# Altium schematic symbol library Schlib_Kur.SchLib: 33 symbols
Pins are listed as number, name and electrical type; pins without a type are passive.

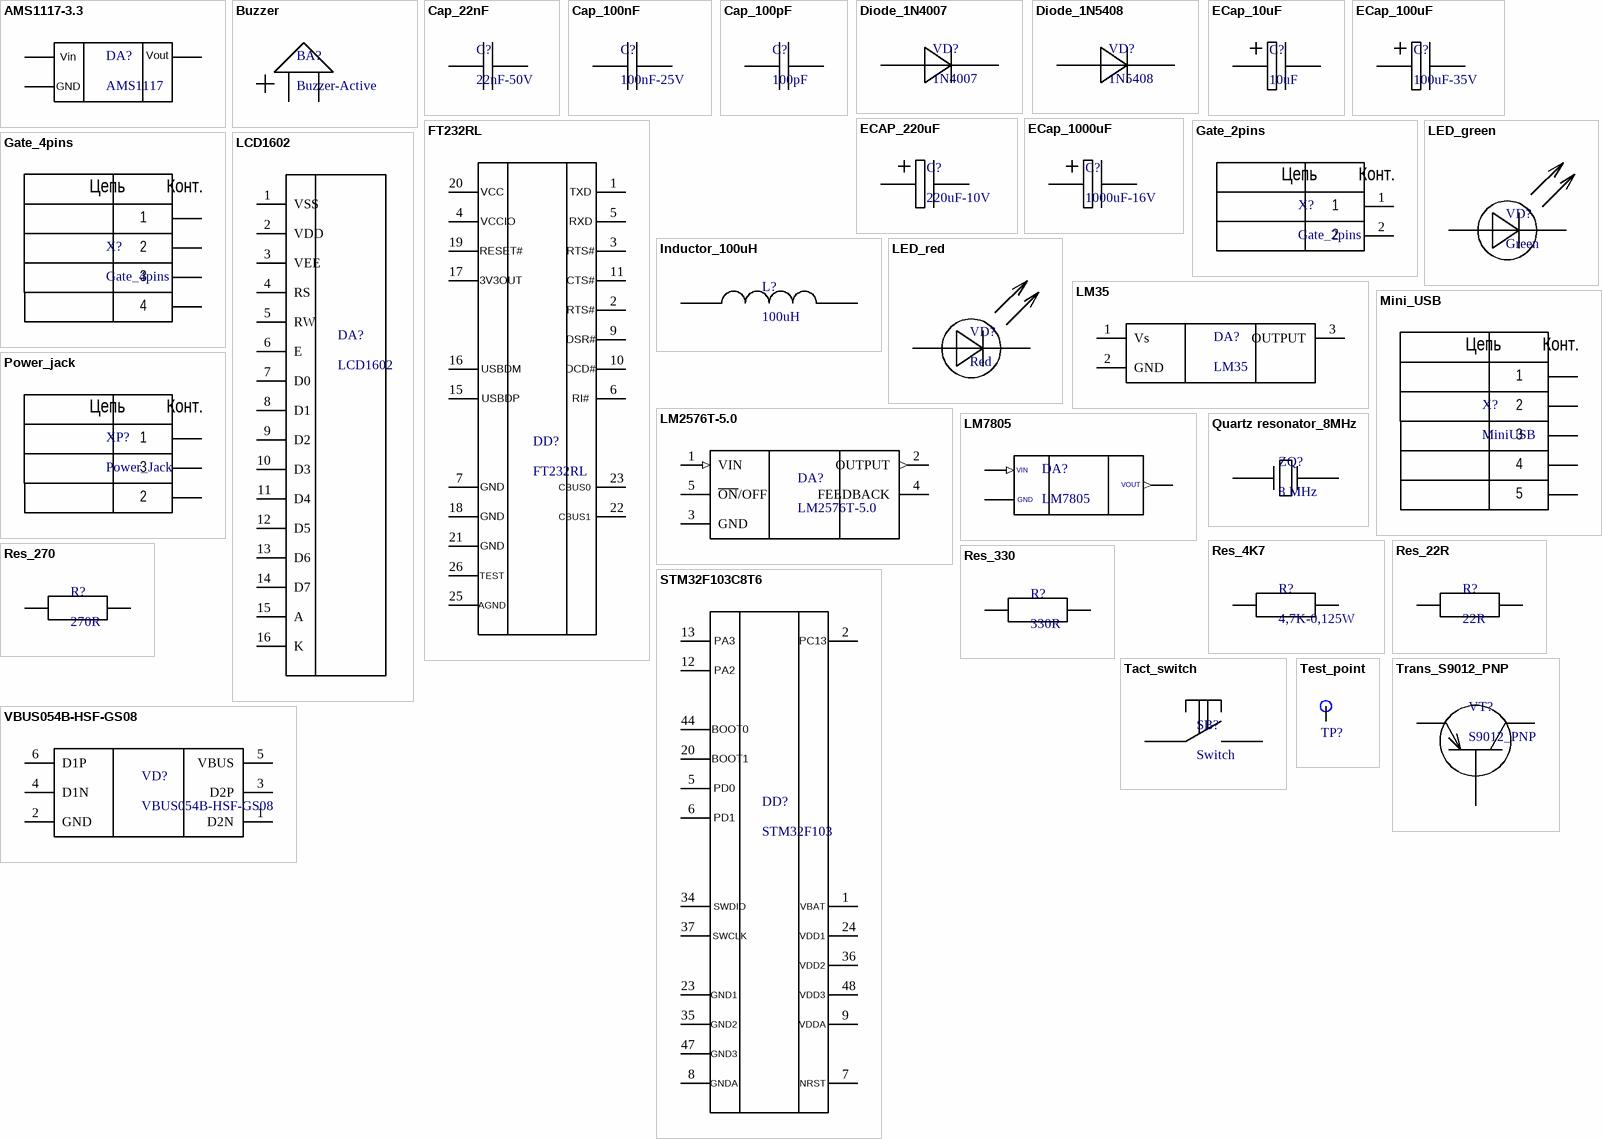
[diagram p0: symbols AMS1117-3.3 to VBUS054B-HSF-GS08]

## AMS1117-3.3
designator DA?, comment AMS1117
footprint AMS1117-3.3V (SOT223, 4-Leads, Body 6.7x7.3mm (max), Pitch 2.30mm, IPC Medium Density)
pins: 1, 2, 3
text: Vin; Vout; GND

## Buzzer
designator BA?, comment Buzzer-Active
footprint 28# Buzzer MINI (PB-12N23P-05Q)
pins: 1, 2

## Cap_22nF
designator C?, comment 22nF-50V
footprint Cap Ceramic 0805 SMD (Reflow Soldering)
pins: 1, 2

## Cap_100nF
designator C?, comment 100nF-25V
footprint Cap Ceramic 0603 SMD (Reflow Soldering)
pins: 1, 2

## Cap_100pF
designator C?, comment 100pF
footprint C0805
pins: 1, 2

## Diode_1N4007
designator VD?, comment 1N4007
pins: 1, 2

## Diode_1N5408
designator VD?, comment 1N5408
pins: 1, 2

## ECap_10uF
designator C?, comment 10uF
footprint Cap_470uFx16V
pins: 1, 2

## ECap_100uF
designator C?, comment 100uF-35V
footprint Cap_470uFx16V
pins: 1, 2

## ECAP_220uF
designator C?, comment 220uF-10V
footprint CAP ALU CASE E SMD
pins: 1, 2

## ECap_1000uF
designator C?, comment 1000uF-16V
footprint Cap_470uFx16V
pins: 1, 2

## FT232RL
designator DD?
footprint SSOP 28 (TSSOP PW 28  PIN TO PIN 0.65)
pins: 1, 2, 3, 4, 5, 6, 7, 9, 10, 11, 15, 16, 17, 18, 19, 20, 21, 22, 23, 25, 26
text: VCC; TXD; VCCIO; RXD; RESET#; RTS#; 3V3OUT; CTS#; DSR#; USBDM; DCD#; USBDP; RI#; GND; CBUS0; CBUS1; TEST; AGND

## Gate_2pins
designator X?
footprint Header_2 (Connector DIP, 2Pin_2.54mm)
pins: 1, 2
text: Цепь; Конт.

## Gate_4pins
designator X?
footprint Header_4 (Connector DIP, 4Pin_2.54mm)
pins: 1, 2, 3, 4
text: Цепь; Конт.

## Inductor_100uH
designator L?, comment 100uH
pins: 1, 2

## LCD1602
designator DA?
pins: 1 VSS, 2 VDD, 3 VEE, 4 RS, 5 RW, 6 E, 7 D0, 8 D1, 9 D2, 10 D3, 11 D4, 12 D5, 13 D6, 14 D7, 15 A, 16 K

## LED_green
designator VD?, comment Green
footprint Led 0805G (Chip LED; Green; Body 2.0 x 1.3 mm (LxW typ))
pins: 1, 2

## LED_red
designator VD?, comment Red
footprint Led 0805R (Chip LED; RED ; Body 2.0 x 1.3 mm (LxW typ))
pins: 1, 2

## LM35
designator DA?
pins: 1 Vs, 2 GND, 3 OUTPUT

## LM2576T-5.0
designator DA?
footprint IR2101S_SO-8
pins: 1 VIN (in), 2 OUTPUT (out), 3 GND, 4 FEEDBACK, 5 ~{ON}/OFF

## LM7805
designator DA?
footprint L78M05_DPAK
pins: 1 IN (in), 2 OUT (out), 3 GND
text: VIN; VOUT

## Mini_USB
designator X?, comment MiniUSB
footprint USB_MNI_B (USB_MINI_B 9.2mmX7.75mm)
pins: 1, 2, 3, 4, 5
text: Цепь; Конт.

## Power_jack
designator XP?, comment Power_Jack
footprint Powerjack
pins: 1, 2, 2
text: Цепь; Конт.; 3

## Quartz resonator_8MHz
designator ZQ?, comment 8 MHz
footprint CRYSTAL-HC49S
pins: 1, 2

## Res_4K7
designator R?, comment 4,7K-0,125W
footprint Res 0805 SMD (Reflow Soldering)
pins: 1, 2

## Res_22R
designator R?, comment 22R
footprint Res 0805 SMD (Reflow Soldering)
pins: 1, 2

## Res_270
designator R?, comment 270R
footprint Res 0805 SMD (Reflow Soldering)
pins: 1, 2

## Res_330
designator R?, comment 330R
footprint Res_0805
pins: 1, 2

## STM32F103C8T6
designator DD?, comment STM32F103
footprint stm32f103c8t6-48LQFP (LQFP-48)
pins: 1, 2, 5, 6, 7, 8, 9, 12, 13, 20, 23, 24, 34, 35, 36, 37, 44, 47, 48
text: PA3; PC13; PA2; BOOT0; BOOT1; PD0; PD1; SWDIO; VBAT; SWCLK; VDD1; VDD2; GND1; VDD3; GND2; VDDA; GND3; GNDA; NRST

## Tact_switch
designator SB?, comment Switch
footprint Tact_switch
pins: 1, 2

## Test_point
designator TP?, comment TP1  (value not drawn)
footprint TP1
pins: 1, 1

## Trans_S9012_PNP
designator VT?, comment S9012_PNP
footprint SOT-23
pins: 1, 2, 3

## VBUS054B-HSF-GS08
designator VD?
footprint LLP75
pins: 1 D2N, 2 GND, 3 D2P, 4 D1N, 5 VBUS, 6 D1P